# Altium integrated library TSM3446CX6_RFG.IntLib: 1 symbol
Pins are listed as number, name and electrical type; pins without a type are passive.

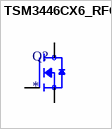
[diagram p0: symbol TSM3446CX6_RFG]

## TSM3446CX6_RFG
designator Q?
MF: {'manufacturer': u'Taiwan Semiconductor'}; MP: TSM3446CX6_RFG; Package: None; Price: None; Value: *; Availability: Unavailable
footprint TRANS_TSM3446CX6_RFG
pins: 1 D, 2 D, 3 G, 4 S, 5 D, 6 D